# Altium schematic symbol library Resettable Fuse.Schlib: 1 symbol
Pins are listed as number, name and electrical type; pins without a type are passive.

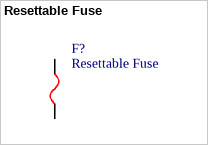
[diagram p0: symbol Resettable Fuse]

## Resettable Fuse
designator F?
pins: 1, 2